# Altium footprint library AMK432BJ477MMT.PcbLib: 2 footprints
Each footprint in its own frame and in the unit in brackets; x right, y up, seen from the top. Pads: shape width x height; smd on the part's side, far side on the other; paste and mask are expansions set on the pad; w line width, h text height; cw(c..) or ccw(c..) is an arc to the next point about the centre after c.
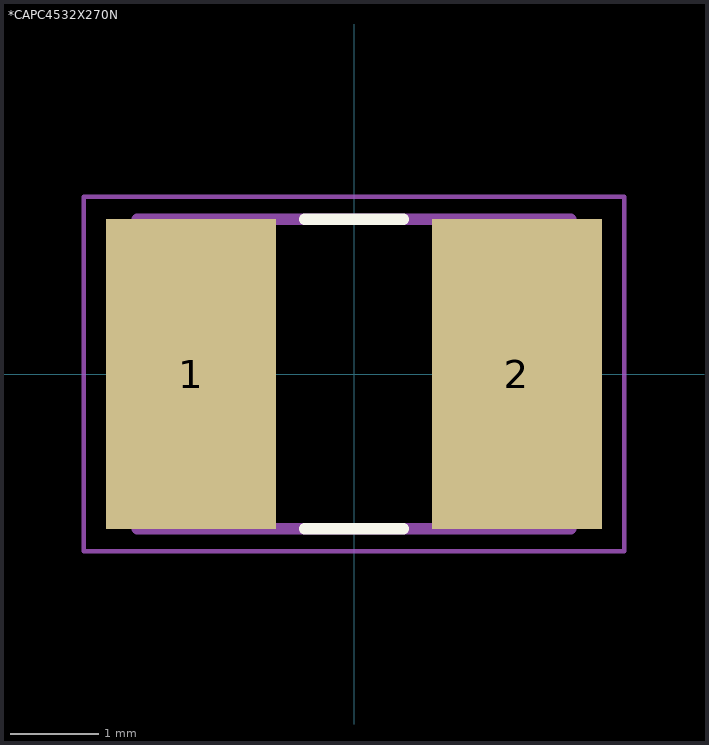
[diagram p0: the footprints below, top view; thin cyan lines are the x and y axes]

## *CAPC4532X270N [mm]
pads (2):
  rect 1.92x3.51 smd: 1(-1.842,0) 2(1.842,0)
Top Overlay:
  lines w0.127: -0.56,-1.75 0.56,-1.75 ; -0.56,1.75 0.56,1.75
Mechanical 4:
  lines w0.127: -2.45,-1.75 -2.45,1.75 ; -2.45,-1.75 2.45,-1.75 ; -2.45,-1.75 -2.45,1.75 ; -2.45,-1.75 2.45,-1.75 ; -2.45,1.75 2.45,1.75 ; -2.45,1.75 2.45,1.75 ; 2.45,-1.75 2.45,1.75 ; 2.45,-1.75 2.45,1.75
Mechanical 16:
  lines w0.05: -3.054,-2.005 -3.054,2.005 3.054,2.005 3.054,-2.005 -3.054,-2.005

## PCBComponent_1 [mm]